# Altium schematic symbol library 0522071233.SchLib: 1 symbol
Pins are listed as number, name and electrical type; pins without a type are passive.

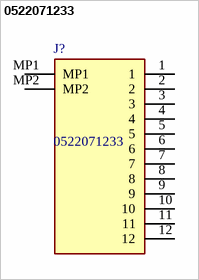
[diagram p0: symbol 0522071233]

## 0522071233
designator J?
Easy-On Type FFC/FPC Connector, Right-Angle, Surface Mount, ZIF, Top Contact Style Receptacle, 12 Circuits, High Barrier Packaging; Manufacturer_Name: Molex; Geometry.Height: 2.9mm; Arrow Part Number: 0522071233; Arrow Price/Stock: https://www.arrow.com/en/products/0522071233/molex; Manufacturer_Part_Number: 0522071233; Datasheet Link: https://www.arrow.com/en/products/0522071233/molex
footprint 0522071233
pins: 1, 2, 3, 4, 5, 6, 7, 8, 9, 10, 11, 12, MP1, MP2